# Altium footprint library AWHSH105D00G.PcbLib: 1 footprints
Each footprint in its own frame and in the unit in brackets; x right, y up, seen from the top. Pads: shape width x height; smd on the part's side, far side on the other; paste and mask are expansions set on the pad; w line width, h text height; cw(c..) or ccw(c..) is an arc to the next point about the centre after c.
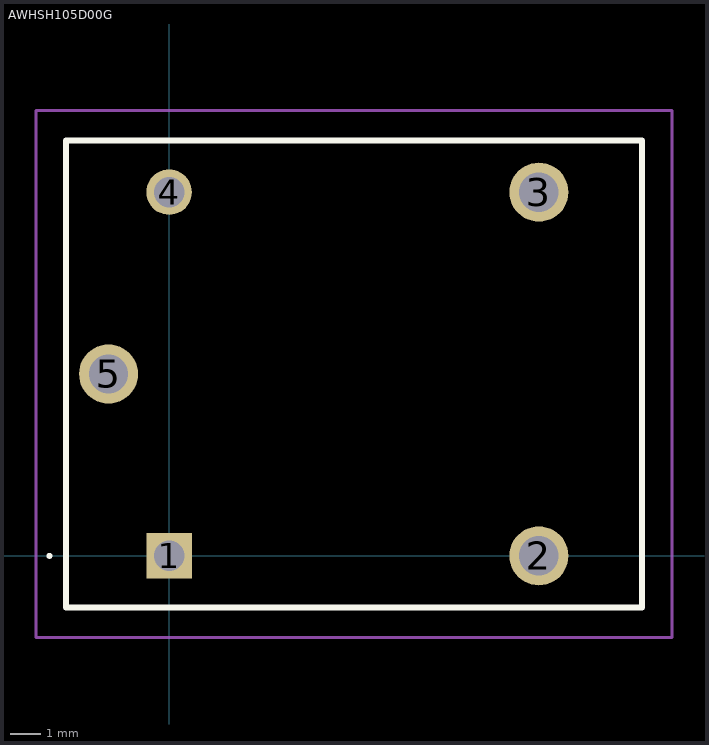
[diagram p0: the footprint, top view; thin cyan lines are the x and y axes]

## AWHSH105D00G [mm]
pads (5):
  rect 1.5x1.5 hole 1: 1(0,0)
  round 1.95 hole 1.3: 2(12.2,0) 3(12.2,12) 5(-2,6)
  round 1.5 hole 1: 4(0,12)
Top Overlay:
  lines w0.1: -4,0 -4,0 ; -4,0 ccw(c-3.95,0) -3.9,0 ; -4,0 cw(c-3.95,0) -3.9,0 ; -3.9,0 -3.9,0
  lines w0.2: -3.4,-1.7 15.6,-1.7 15.6,13.7 -3.4,13.7 -3.4,-1.7
Mechanical 15:
  lines w0.1: -3.4,-1.7 15.6,-1.7 15.6,13.7 -3.4,13.7 -3.4,-1.7
Mechanical 20:
  lines w0.1: -4.4,-2.7 16.6,-2.7 16.6,14.7 -4.4,14.7 -4.4,-2.7